# Altium integrated library Bourns-TrimmerPotentiometers.IntLib: 19 symbols
Pins are listed as number, name and electrical type; pins without a type are passive.

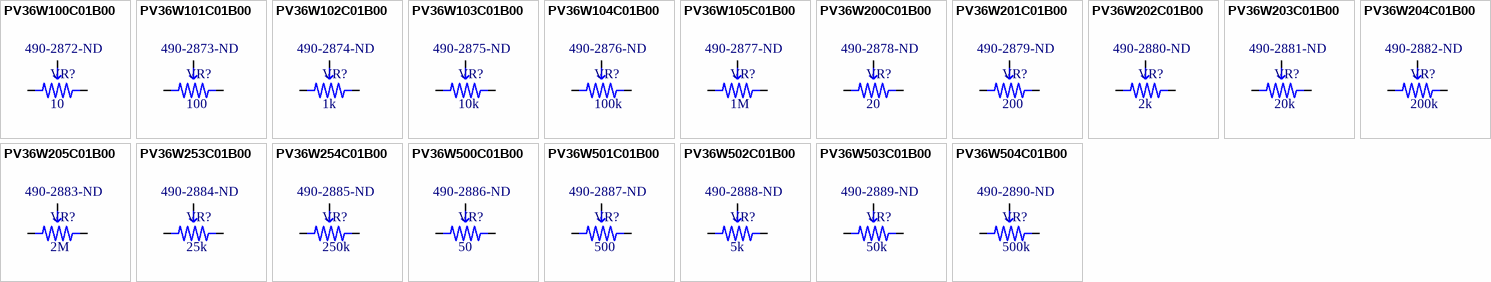
[diagram p0: symbols PV36W100C01B00 to PV36W504C01B00]

## PV36W100C01B00
designator VR?, comment 10  Supplier Part Number 1: 490-2872-ND
Bourns, PV36 Series Multiturn trimmer potentiometer, W type, 1/2W, 25 turns; ComponentLink1Description: Datasheet; ComponentLink1URL: https://www.bourns.com/docs/Product-Datasheets/pv36.pdf; Supplier 1: Digi-Key
footprint PV36W
pins: 1, 2, 3

## PV36W101C01B00
designator VR?, comment 100  Supplier Part Number 1: 490-2873-ND
Bourns, PV36 Series Multiturn trimmer potentiometer, W type, 1/2W, 25 turns; ComponentLink1Description: Datasheet; ComponentLink1URL: https://www.bourns.com/docs/Product-Datasheets/pv36.pdf; Supplier 1: Digi-Key
footprint PV36W
pins: 1, 2, 3

## PV36W102C01B00
designator VR?, comment 1k  Supplier Part Number 1: 490-2874-ND
Bourns, PV36 Series Multiturn trimmer potentiometer, W type, 1/2W, 25 turns; ComponentLink1Description: Datasheet; ComponentLink1URL: https://www.bourns.com/docs/Product-Datasheets/pv36.pdf; Supplier 1: Digi-Key
footprint PV36W
pins: 1, 2, 3

## PV36W103C01B00
designator VR?, comment 10k  Supplier Part Number 1: 490-2875-ND
Bourns, PV36 Series Multiturn trimmer potentiometer, W type, 1/2W, 25 turns; ComponentLink1Description: Datasheet; ComponentLink1URL: https://www.bourns.com/docs/Product-Datasheets/pv36.pdf; Supplier 1: Digi-Key
footprint PV36W
pins: 1, 2, 3

## PV36W104C01B00
designator VR?, comment 100k  Supplier Part Number 1: 490-2876-ND
Bourns, PV36 Series Multiturn trimmer potentiometer, W type, 1/2W, 25 turns; ComponentLink1Description: Datasheet; ComponentLink1URL: https://www.bourns.com/docs/Product-Datasheets/pv36.pdf; Supplier 1: Digi-Key
footprint PV36W
pins: 1, 2, 3

## PV36W105C01B00
designator VR?, comment 1M  Supplier Part Number 1: 490-2877-ND
Bourns, PV36 Series Multiturn trimmer potentiometer, W type, 1/2W, 25 turns; ComponentLink1Description: Datasheet; ComponentLink1URL: https://www.bourns.com/docs/Product-Datasheets/pv36.pdf; Supplier 1: Digi-Key
footprint PV36W
pins: 1, 2, 3

## PV36W200C01B00
designator VR?, comment 20  Supplier Part Number 1: 490-2878-ND
Bourns, PV36 Series Multiturn trimmer potentiometer, W type, 1/2W, 25 turns; ComponentLink1Description: Datasheet; ComponentLink1URL: https://www.bourns.com/docs/Product-Datasheets/pv36.pdf; Supplier 1: Digi-Key
footprint PV36W
pins: 1, 2, 3

## PV36W201C01B00
designator VR?, comment 200  Supplier Part Number 1: 490-2879-ND
Bourns, PV36 Series Multiturn trimmer potentiometer, W type, 1/2W, 25 turns; ComponentLink1Description: Datasheet; ComponentLink1URL: https://www.bourns.com/docs/Product-Datasheets/pv36.pdf; Supplier 1: Digi-Key
footprint PV36W
pins: 1, 2, 3

## PV36W202C01B00
designator VR?, comment 2k  Supplier Part Number 1: 490-2880-ND
Bourns, PV36 Series Multiturn trimmer potentiometer, W type, 1/2W, 25 turns; ComponentLink1Description: Datasheet; ComponentLink1URL: https://www.bourns.com/docs/Product-Datasheets/pv36.pdf; Supplier 1: Digi-Key
footprint PV36W
pins: 1, 2, 3

## PV36W203C01B00
designator VR?, comment 20k  Supplier Part Number 1: 490-2881-ND
Bourns, PV36 Series Multiturn trimmer potentiometer, W type, 1/2W, 25 turns; ComponentLink1Description: Datasheet; ComponentLink1URL: https://www.bourns.com/docs/Product-Datasheets/pv36.pdf; Supplier 1: Digi-Key
footprint PV36W
pins: 1, 2, 3

## PV36W204C01B00
designator VR?, comment 200k  Supplier Part Number 1: 490-2882-ND
Bourns, PV36 Series Multiturn trimmer potentiometer, W type, 1/2W, 25 turns; ComponentLink1Description: Datasheet; ComponentLink1URL: https://www.bourns.com/docs/Product-Datasheets/pv36.pdf; Supplier 1: Digi-Key
footprint PV36W
pins: 1, 2, 3

## PV36W205C01B00
designator VR?, comment 2M  Supplier Part Number 1: 490-2883-ND
Bourns, PV36 Series Multiturn trimmer potentiometer, W type, 1/2W, 25 turns; ComponentLink1Description: Datasheet; ComponentLink1URL: https://www.bourns.com/docs/Product-Datasheets/pv36.pdf; Supplier 1: Digi-Key
footprint PV36W
pins: 1, 2, 3

## PV36W253C01B00
designator VR?, comment 25k  Supplier Part Number 1: 490-2884-ND
Bourns, PV36 Series Multiturn trimmer potentiometer, W type, 1/2W, 25 turns; ComponentLink1Description: Datasheet; ComponentLink1URL: https://www.bourns.com/docs/Product-Datasheets/pv36.pdf; Supplier 1: Digi-Key
footprint PV36W
pins: 1, 2, 3

## PV36W254C01B00
designator VR?, comment 250k  Supplier Part Number 1: 490-2885-ND
Bourns, PV36 Series Multiturn trimmer potentiometer, W type, 1/2W, 25 turns; ComponentLink1Description: Datasheet; ComponentLink1URL: https://www.bourns.com/docs/Product-Datasheets/pv36.pdf; Supplier 1: Digi-Key
footprint PV36W
pins: 1, 2, 3

## PV36W500C01B00
designator VR?, comment 50  Supplier Part Number 1: 490-2886-ND
Bourns, PV36 Series Multiturn trimmer potentiometer, W type, 1/2W, 25 turns; ComponentLink1Description: Datasheet; ComponentLink1URL: https://www.bourns.com/docs/Product-Datasheets/pv36.pdf; Supplier 1: Digi-Key
footprint PV36W
pins: 1, 2, 3

## PV36W501C01B00
designator VR?, comment 500  Supplier Part Number 1: 490-2887-ND
Bourns, PV36 Series Multiturn trimmer potentiometer, W type, 1/2W, 25 turns; ComponentLink1Description: Datasheet; ComponentLink1URL: https://www.bourns.com/docs/Product-Datasheets/pv36.pdf; Supplier 1: Digi-Key
footprint PV36W
pins: 1, 2, 3

## PV36W502C01B00
designator VR?, comment 5k  Supplier Part Number 1: 490-2888-ND
Bourns, PV36 Series Multiturn trimmer potentiometer, W type, 1/2W, 25 turns; ComponentLink1Description: Datasheet; ComponentLink1URL: https://www.bourns.com/docs/Product-Datasheets/pv36.pdf; Supplier 1: Digi-Key
footprint PV36W
pins: 1, 2, 3

## PV36W503C01B00
designator VR?, comment 50k  Supplier Part Number 1: 490-2889-ND
Bourns, PV36 Series Multiturn trimmer potentiometer, W type, 1/2W, 25 turns; ComponentLink1Description: Datasheet; ComponentLink1URL: https://www.bourns.com/docs/Product-Datasheets/pv36.pdf; Supplier 1: Digi-Key
footprint PV36W
pins: 1, 2, 3

## PV36W504C01B00
designator VR?, comment 500k  Supplier Part Number 1: 490-2890-ND
Bourns, PV36 Series Multiturn trimmer potentiometer, W type, 1/2W, 25 turns; ComponentLink1Description: Datasheet; ComponentLink1URL: https://www.bourns.com/docs/Product-Datasheets/pv36.pdf; Supplier 1: Digi-Key
footprint PV36W
pins: 1, 2, 3